# EAGLE library part MAX13202EALT+ (library PCB_Components)
TVS DIODE 6UDFN Source: Datasheet <https://pdfserv.maximintegrated.com/en/ds/MAX13202E-MAX13208E.pdf>
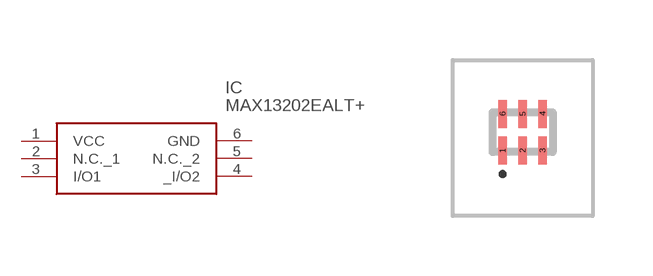
[diagram p8: symbol with the pads of MAX13202EALT; footprint MAX13202EALT]

Designator prefix IC

## MAX13202EALT+ (DESCRIPTION: TVS DIODE 6UDFN; HEIGHT: 0.8mm; MANUFACTURER_NAME: Maxim Integrated; MANUFACTURER_PART_NUMBER: MAX13202EALT+)  [MAX13202EALT]
1  VCC
2  N.C._1
3  I/O1
4  _I/O2
5  N.C._2
6  GND

## Footprint MAX13202EALT (pad centres in mm)
L611+1_1
smd 0.22 x 0.7: 1 -0.5,-0.46; 2 0,-0.46; 3 0.5,-0.46; 4 0.5,0.46; 5 0,0.46; 6 -0.5,0.46